# EAGLE library part 4RES (library dubec)
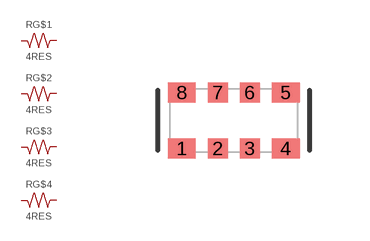
[diagram p32: symbol with the pads of 1206-QUAD-LS; footprint 1206-QUAD-LS]

Designator prefix R; gates G$1=RES G$2=RES G$3=RES G$4=RES

## 4RES5.6K_16 (DIGIKEY_PART_#: Y9562CT-ND; EPK: 11.22; MANUFACTURER: Panasonic Electronic Components; MFG_PART_#: EXB-38V562JV; TEMP: ±200ppm/°C; TOLERANCE: ±5%)  [1206-QUAD-LS]
1  G$1:1  pas
2  G$2:1  pas
3  G$3:1  pas
4  G$4:1  pas
5  G$4:2  pas
6  G$3:2  pas
7  G$2:2  pas
8  G$1:2  pas

## 4RES10K_16 (DIGIKEY_PART_#: Y9103CT-ND; EPK: 11.22; MANUFACTURER: Panasonic Electronic Components; MFG_PART_#: EXB-38V103JV; TEMP: ±200ppm/°C; TOLERANCE: ±5%)  [1206-QUAD-LS]
Pads as for 1206-QUAD-LS

## 4RES150_16 (DIGIKEY_PART_#: Y4151CT-ND; EURO: 2.37/100; MANUFACTURER: Panasonic Electronic Components; MFG_PART_#: EXB-V8V151JV; TEMP: ±200ppm/°C; TOLERANCE: ±5%)  [1206-QUAD-LS]
Pads as for 1206-QUAD-LS

## Footprint 1206-QUAD-LS (pad centres in mm)
smd 0.7 x 0.5: 1 -1.3,-0.7; 4 1.3,-0.7; 5 1.3,0.7; 8 -1.3,0.7
smd 0.5 x 0.5: 2 -0.4,-0.7; 3 0.4,-0.7; 6 0.4,0.7; 7 -0.4,0.7